# EAGLE library part ESP8266-12 (library ESP8266-ESP12)
Espressif ESP8266 ESP-12 Module with GPIO04 and GPIO05 corrected.
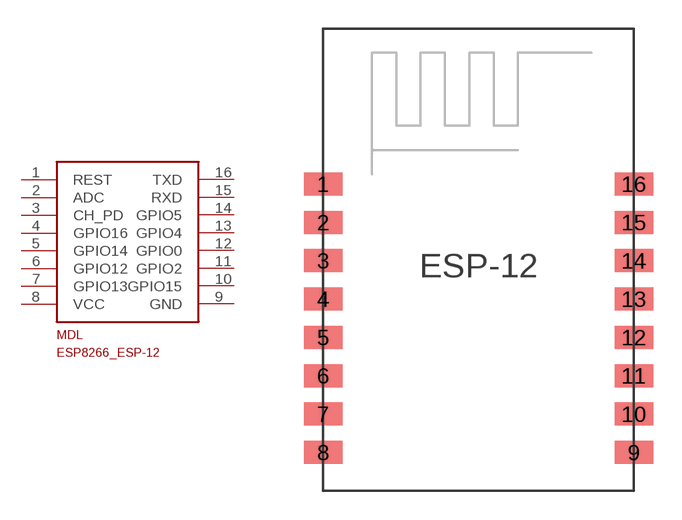
[diagram p0: symbol with the pads of ESP8266-ESP12; footprint ESP8266-ESP12]

Designator prefix MDL

## ESP8266-12GPIO04/05_CORRECTED  [ESP8266-ESP12]
1  REST
2  ADC
3  CH_PD
4  GPIO16
5  GPIO14
6  GPIO12
7  GPIO13
8  VCC
9  GND
10  GPIO15
11  GPIO2
12  GPIO0
13  GPIO4
14  GPIO5
15  RXD
16  TXD

## Footprint ESP8266-ESP12 (pad centres in mm)
ESP8266-12 with GPIO04/05 corrected
smd 2 x 1.2: 1 0,16; 2 0,14; 3 0,12; 4 0,10; 5 0,8; 6 0,6; 7 0,4; 8 0,2; 9 16.2,2; 10 16.2,4; 11 16.2,6; 12 16.2,8; 13 16.2,10; 14 16.2,12; 15 16.2,14; 16 16.2,16